# Altium schematic symbol library Schlib_MW.SchLib: 6 symbols
Pins are listed as number, name and electrical type; pins without a type are passive.

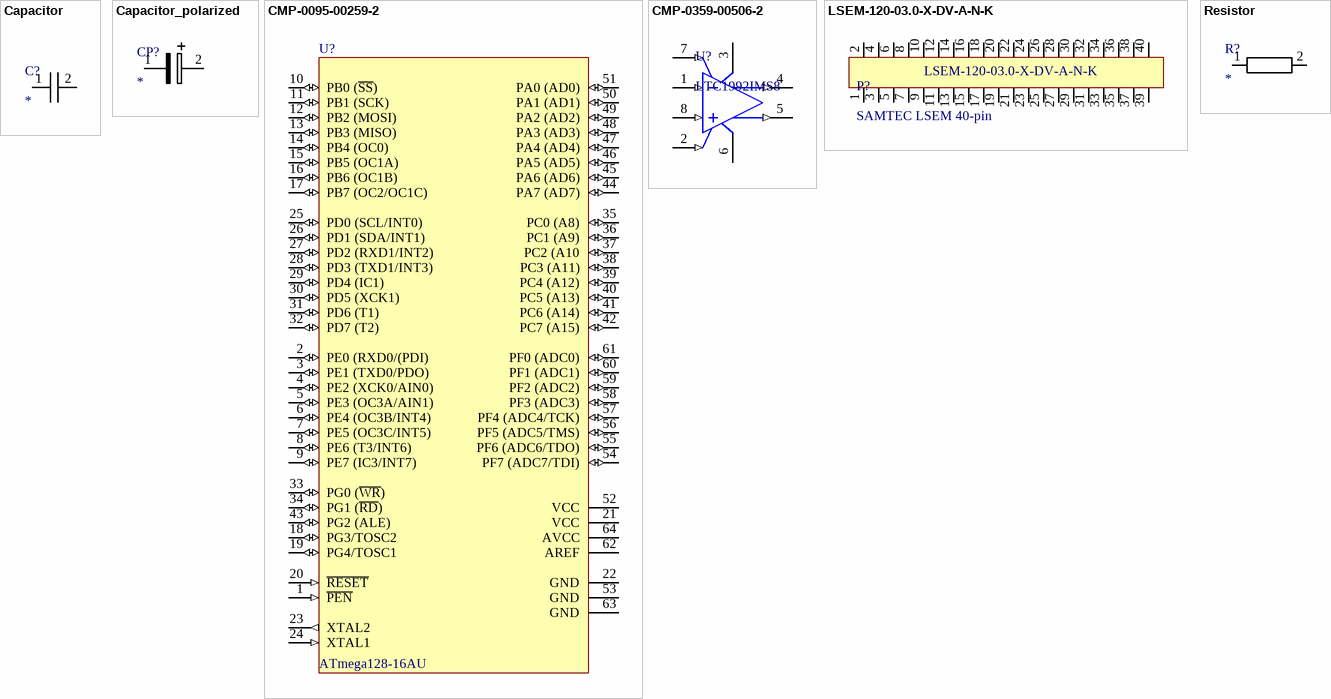
[diagram p0: symbols Capacitor to Resistor]

## Capacitor
designator C?
Manufacturer: *; Part Number: *; Value: *
footprint 0805_IPC
footprint 0805_STD
pins: 1 PIN, 2 PIN

## Capacitor_polarized
designator CP?
Manufacturer: *; Part Number: *; Value: *
footprint VJ_Tantalum_A
footprint VJ_Tantalum_D
pins: 1 PIN, 2 PIN

## CMP-0095-00259-2
designator U?, comment ATmega128-16AU
8-bit AVR Microcontroller, 4.5-5.5V, 128KB Flash, 4KB EEPROM, 4KB SRAM, 64-pin TQFP, Industrial Grade (-40°C to 85°C); ComponentLink3URL: http://www.atmel.com/dyn/resources/prod_documents/2467S.pdf; PackageVersion: revC, Oct-2010; ComponentLink2URL: http://www.atmel.com/dyn/resources/prod_documents/doc2467.pdf; ComponentLink2Description: ATmega128(L) Datasheet; ComponentLink1Description: Manufacturer URL; PackageReference: 64A; DatasheetVersion: revX, Jun-2011; ComponentLink3Description: ATmega128(L) Summary; ComponentLink1URL: http://www.atmel.com/; RevisionNote: PackageVersion updated. URLs added.; Code_JEDEC: MS-026-AEB; PackageDescription: 64-Pin Plastic Thin Profile Quad Flat Pack, 14 x 14 x 1.0 mm Body, 0.8 mm Pitch (TQFP)
footprint 64A_M (Thin QFP, 64-Leads, Body 14x14mm, Pitch 0.8mm, IPC Low Density)
footprint 64A_L (Thin QFP, 64-Leads, Body 14x14mm, Pitch 0.8mm, IPC High Density)
footprint 64A_N (Thin QFP, 64-Leads, Body 14x14mm, Pitch 0.8mm, IPC Medium Density)
pins: 1 ~{PEN} (in), 2 PE0 (RXD0/(PDI) (io), 3 PE1 (TXD0/PDO) (io), 4 PE2 (XCK0/AIN0) (io), 5 PE3 (OC3A/AIN1) (io), 6 PE4 (OC3B/INT4) (io), 7 PE5 (OC3C/INT5) (io), 8 PE6 (T3/INT6) (io), 9 PE7 (IC3/INT7) (io), 10 PB0 (~{SS}) (io), 11 PB1 (SCK) (io), 12 PB2 (MOSI) (io), 13 PB3 (MISO) (io), 14 PB4 (OC0) (io), 15 PB5 (OC1A) (io), 16 PB6 (OC1B) (io), 17 PB7 (OC2/OC1C) (io), 18 PG3/TOSC2 (io), 19 PG4/TOSC1 (io), 20 ~{RESET} (in), 21 VCC (power), 22 GND (power), 23 XTAL2 (out), 24 XTAL1 (in), 25 PD0 (SCL/INT0) (io), 26 PD1 (SDA/INT1) (io), 27 PD2 (RXD1/INT2) (io), 28 PD3 (TXD1/INT3) (io), 29 PD4 (IC1) (io), 30 PD5 (XCK1) (io), 31 PD6 (T1) (io), 32 PD7 (T2) (io), 33 PG0 (~{WR}) (io), 34 PG1 (~{RD}) (io), 35 PC0 (A8) (io), 36 PC1 (A9) (io), 37 PC2 (A10 (io), 38 PC3 (A11) (io), 39 PC4 (A12) (io), 40 PC5 (A13) (io), 41 PC6 (A14) (io), 42 PC7 (A15) (io), 43 PG2 (ALE) (io), 44 PA7 (AD7) (io), 45 PA6 (AD6) (io), 46 PA5 (AD5) (io), 47 PA4 (AD4) (io), 48 PA3 (AD3) (io), 49 PA2 (AD2) (io), 50 PA1 (AD1) (io), 51 PA0 (AD0) (io), 52 VCC (power), 53 GND (power), 54 PF7 (ADC7/TDI) (io), 55 PF6 (ADC6/TDO) (io), 56 PF5 (ADC5/TMS) (io), 57 PF4 (ADC4/TCK) (io), 58 PF3 (ADC3) (io), 59 PF2 (ADC2) (io), 60 PF1 (ADC1) (io), 61 PF0 (ADC0) (io), 62 AREF, 63 GND (power), 64 AVCC (power)

## CMP-0359-00506-2
designator U?, comment LTC1992IMS8
Single Channel, Low Power, Fully Differential Input / Output Amplifier / Driver, 4 MHz Typical GBW, 0.75 V/us Typical SR, 2.4 to 12 V, 8-Pin SOP (MS8-8), Industrial; Manufacturer: Linear Technology; Is (mA) Typical: 0.65; Vs Min (V): 2.4; SR (V/us) Typical: 0.75; Vos (mV) Typical: 0.25; Vs Max (V): 12; Channels (#): 1; GBW (MHz) Typical: 4; ComponentLink3URL: http://cds.linear.com/docs/en/packaging/05081610_G_SO8.pdf; Linear Technology Part Number: LTC1992; PackageDescription: 8-Lead Plastic Small Outline, Body 3.9 x 4.9 mm, Pitch 1.27 mm; Type: DIFF; ComponentLink1URL: http://www.linear.com/; ComponentLink2Description: Datasheet; PartNumber: LTC1992IMS8; DatasheetVersion: Rev. A; ComponentLink3Description: Package Specification; Mounting Technology: Surface Mount; ComponentLink2URL: http://cds.linear.com/docs/en/datasheet/1992fb.pdf; RevisionNote: URLs updated; PackageReference: LT-MS8-8; ComponentLink1Description: Manufacturer URL; PackageVersion: Rev G
footprint LT-MS8-8_L (SOP, 8-Leads, Body 3x3mm, Pitch 0.65mm, IPC High Density)
footprint LT-MS8-8_M (SOP, 8-Leads, Body 3x3mm, Pitch 0.65mm, IPC Low Density)
footprint LT-MS8-8_N (SOP, 8-Leads, Body 3x3mm, Pitch 0.65mm, IPC Medium Density)
pins: 1 -IN (in) "Inverting and Noninverting Inputs of the Amplifier. For the LTC1992 part, these pins are connected directly to the amplifier’s P-channel MOSFET input devices. The fixed gain LTC1992-X parts have precision, on-chip gain (See Datasheet)", 2 VOCM (in) "Output Common Mode Voltage Set Pin. The voltage on this pin sets the output signal’s common mode voltage level. The output common mode level is set independent of the input common mode level. This is a high impedance input (See Datasheet)", 3 +VS (power) "The +VS and -VS power supply pins should be bypassed with 0.1uF capacitors to an adequate analog ground or ground plane. The bypass capacitors should be located as closely as possible to the supply pins.", 4 +OUT (out) "The Positive and Negative Outputs of the Amplifier. These rail-to-rail outputs are designed to drive capacitive loads as high as 10,000pF.", 5 -OUT (out) "The Positive and Negative Outputs of the Amplifier. These rail-to-rail outputs are designed to drive capacitive loads as high as 10,000pF.", 6 -VS (power) "The +VS and -VS power supply pins should be bypassed with 0.1uF capacitors to an adequate analog ground or ground plane. The bypass capacitors should be located as closely as possible to the supply pins.", 7 VMID (in) "Mid-Supply Reference. This pin is connected to an on-chip resistive voltage divider to provide a midsupply reference. This provides a convenient way to set the output common mode level at half-supply. If used for this (See Datasheet)", 8 +IN (in) "Inverting and Noninverting Inputs of the Amplifier. For the LTC1992 part, these pins are connected directly to the amplifier’s P-channel MOSFET input devices. The fixed gain LTC1992-X parts have precision, on-chip gain (See Datasheet)"

## LSEM-120-03.0-X-DV-A-N-K
designator P?, comment SAMTEC LSEM 40-pin
Part Number: LSEM-120-03.0-X-DV-A-N-K; Manufacturer: SAMTEC
footprint LSEM-120-03.0-L-DV-A-N-K-TR (Samtec LSEM 40-pin)
pins: 1, 2, 3 2, 4 3, 5 3, 6 4, 7 4, 8 5, 9 5, 10 6, 11 6, 12 7, 13 7, 14 8, 15 8, 16 9, 17 9, 18 10, 19 10, 20 11, 21 11, 22 12, 23 12, 24 13, 25 13, 26 14, 27 14, 28 15, 29 15, 30 16, 31 16, 32 17, 33 17, 34 18, 35 18, 36 19, 37 19, 38 20, 39 20, 40 21

## Resistor
designator R?
Manufacturer: *; Part Number: *; Value: *
footprint 0402
footprint 0603 (Chip Resistor, 2-Leads, Body 1.63x0.81mm, IPC Medium Density)
footprint 1005
pins: 1 PIN, 2 PIN